# Altium schematic symbol library testpad.SCHLIB: 38 symbols
Pins are listed as number, name and electrical type; pins without a type are passive.

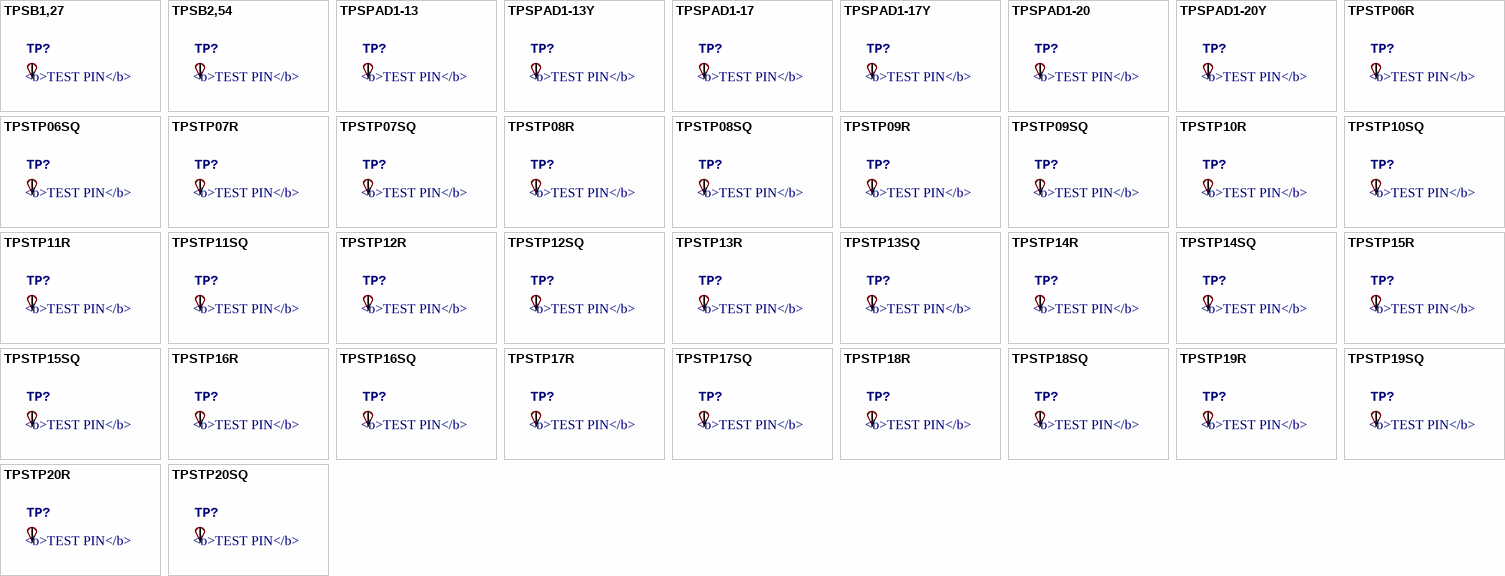
[diagram p0: symbols TPSB1,27 to TPSTP20SQ]

## TPSB1,27
designator TP?, comment <b>TEST PIN</b>
footprint B1,27
pins: TP PP

## TPSB2,54
designator TP?, comment <b>TEST PIN</b>
footprint B2,54
pins: TP PP

## TPSPAD1-13
designator TP?, comment <b>TEST PIN</b>
footprint P1-13
pins: TP PP

## TPSPAD1-13Y
designator TP?, comment <b>TEST PIN</b>
footprint P1-13Y
pins: TP PP

## TPSPAD1-17
designator TP?, comment <b>TEST PIN</b>
footprint P1-17
pins: TP PP

## TPSPAD1-17Y
designator TP?, comment <b>TEST PIN</b>
footprint P1-17Y
pins: TP PP

## TPSPAD1-20
designator TP?, comment <b>TEST PIN</b>
footprint P1-20
pins: TP PP

## TPSPAD1-20Y
designator TP?, comment <b>TEST PIN</b>
footprint P1-20Y
pins: TP PP

## TPSTP06R
designator TP?, comment <b>TEST PIN</b>
footprint TP06R
pins: TP PP

## TPSTP06SQ
designator TP?, comment <b>TEST PIN</b>
footprint TP06SQ
pins: TP PP

## TPSTP07R
designator TP?, comment <b>TEST PIN</b>
footprint TP07R
pins: TP PP

## TPSTP07SQ
designator TP?, comment <b>TEST PIN</b>
footprint TP07SQ
pins: TP PP

## TPSTP08R
designator TP?, comment <b>TEST PIN</b>
footprint TP08R
pins: TP PP

## TPSTP08SQ
designator TP?, comment <b>TEST PIN</b>
footprint TP08SQ
pins: TP PP

## TPSTP09R
designator TP?, comment <b>TEST PIN</b>
footprint TP09R
pins: TP PP

## TPSTP09SQ
designator TP?, comment <b>TEST PIN</b>
footprint TP09SQ
pins: TP PP

## TPSTP10R
designator TP?, comment <b>TEST PIN</b>
footprint TP10R
pins: TP PP

## TPSTP10SQ
designator TP?, comment <b>TEST PIN</b>
footprint TP10SQ
pins: TP PP

## TPSTP11R
designator TP?, comment <b>TEST PIN</b>
footprint TP11R
pins: TP PP

## TPSTP11SQ
designator TP?, comment <b>TEST PIN</b>
footprint TP11SQ
pins: TP PP

## TPSTP12R
designator TP?, comment <b>TEST PIN</b>
footprint TP12R
pins: TP PP

## TPSTP12SQ
designator TP?, comment <b>TEST PIN</b>
footprint TP12SQ
pins: TP PP

## TPSTP13R
designator TP?, comment <b>TEST PIN</b>
footprint TP13R
pins: TP PP

## TPSTP13SQ
designator TP?, comment <b>TEST PIN</b>
footprint TP13SQ
pins: TP PP

## TPSTP14R
designator TP?, comment <b>TEST PIN</b>
footprint TP14R
pins: TP PP

## TPSTP14SQ
designator TP?, comment <b>TEST PIN</b>
footprint TP14SQ
pins: TP PP

## TPSTP15R
designator TP?, comment <b>TEST PIN</b>
footprint TP15R
pins: TP PP

## TPSTP15SQ
designator TP?, comment <b>TEST PIN</b>
footprint TP15SQ
pins: TP PP

## TPSTP16R
designator TP?, comment <b>TEST PIN</b>
footprint TP16R
pins: TP PP

## TPSTP16SQ
designator TP?, comment <b>TEST PIN</b>
footprint TP16SQ
pins: TP PP

## TPSTP17R
designator TP?, comment <b>TEST PIN</b>
footprint TP17R
pins: TP PP

## TPSTP17SQ
designator TP?, comment <b>TEST PIN</b>
footprint TP17SQ
pins: TP PP

## TPSTP18R
designator TP?, comment <b>TEST PIN</b>
footprint TP18R
pins: TP PP

## TPSTP18SQ
designator TP?, comment <b>TEST PIN</b>
footprint TP18SQ
pins: TP PP

## TPSTP19R
designator TP?, comment <b>TEST PIN</b>
footprint TP19R
pins: TP PP

## TPSTP19SQ
designator TP?, comment <b>TEST PIN</b>
footprint TP19SQ
pins: TP PP

## TPSTP20R
designator TP?, comment <b>TEST PIN</b>
footprint TP20R
pins: TP PP

## TPSTP20SQ
designator TP?, comment <b>TEST PIN</b>
footprint TP20SQ
pins: TP PP